# Altium footprint library Wurth_Elektronik_Passive_rev16a.PCBLIB: 810 footprints (part 26 of 51)
Each footprint in its own frame and in the unit in brackets; x right, y up, seen from the top. Pads: shape width x height; smd on the part's side, far side on the other; paste and mask are expansions set on the pad; w line width, h text height; cw(c..) or ccw(c..) is an arc to the next point about the centre after c.
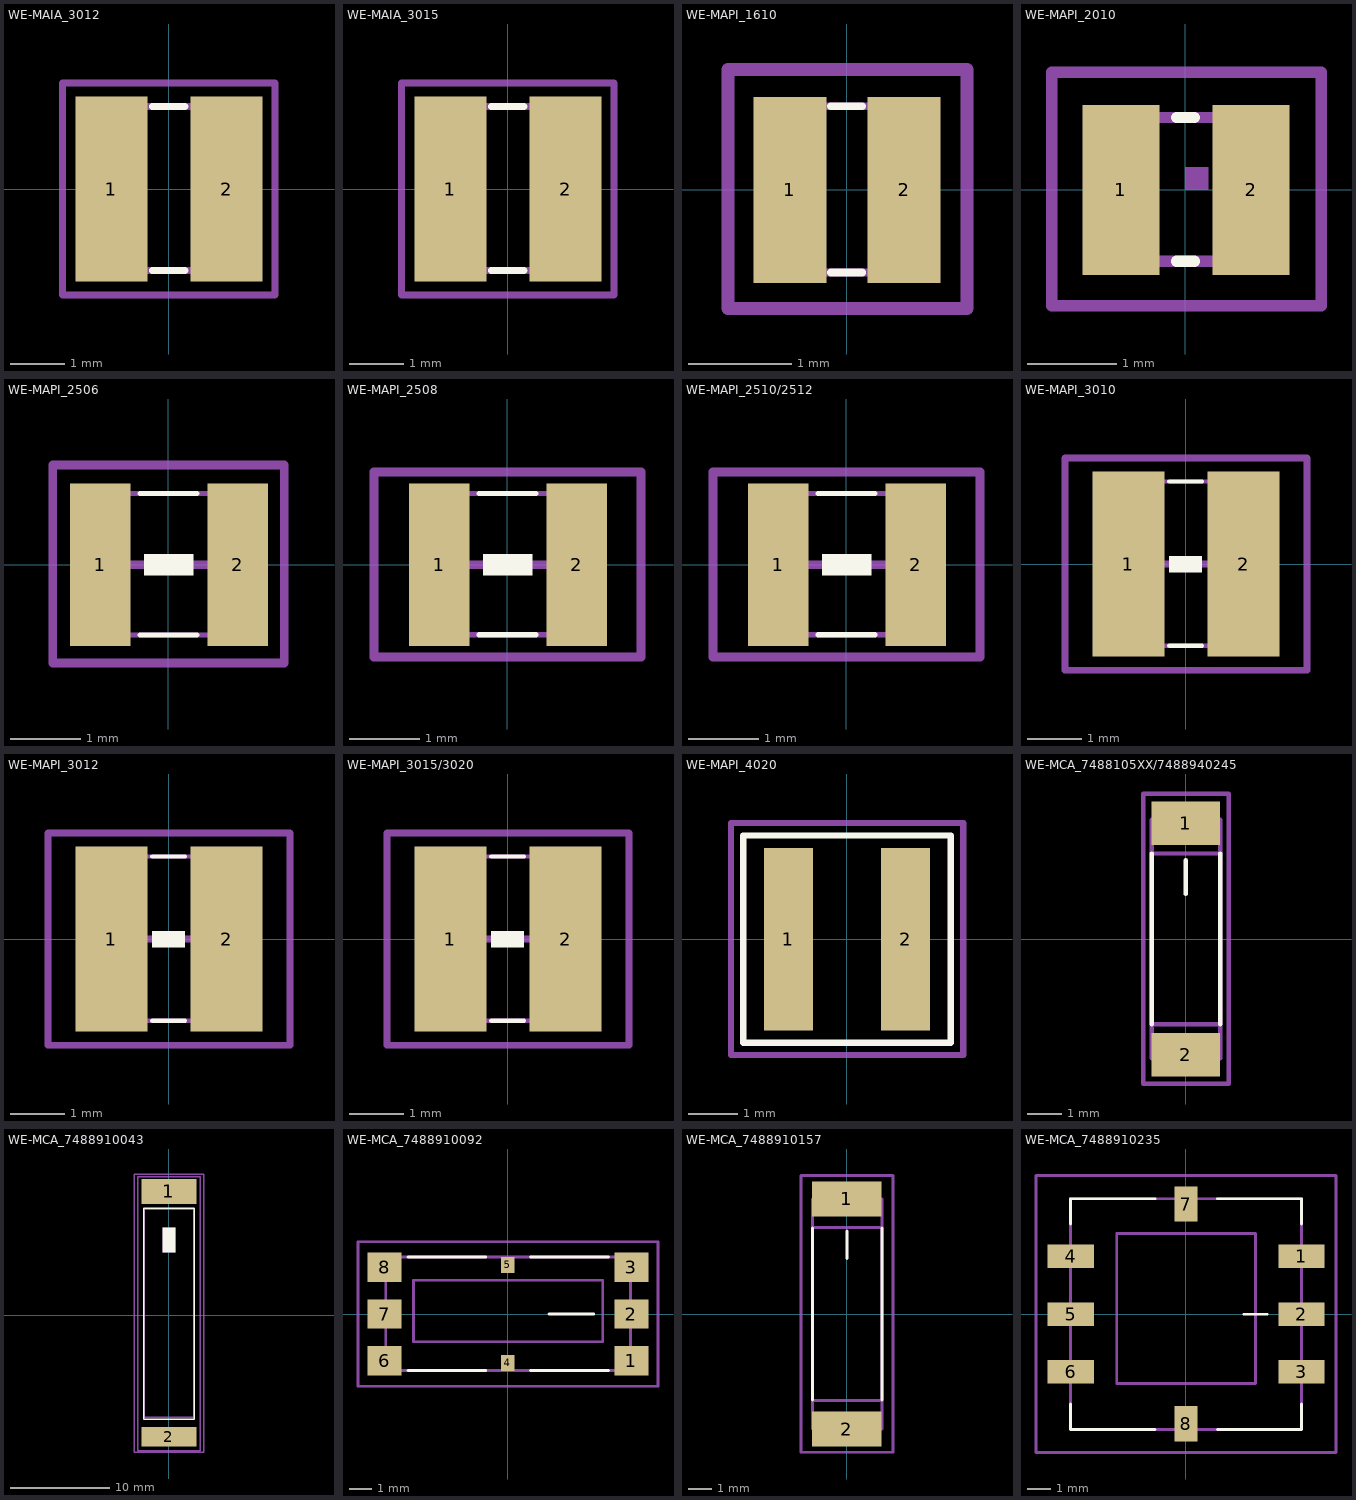
[diagram p25: the footprints below, top view; thin cyan lines are the x and y axes]

## WE-MAIA_3012 [mil]
pads (2):
  rect 52x134 smd: 1(-41.34,0) 2(42,0)
Top Overlay:
  lines w5: -11.81,-59.06 12,-59.06 ; -11.81,60 12,60
Mechanical 2:
  text ">NAME" at -76.77,100 h77.5
Mechanical 4:
  text ">VALUE" at -76.77,-150 h77.5
Mechanical 16:
  lines w5: -11.81,-59.06 -59.06,-59.06 -59.06,60 -11.81,60 ; 12,-59.06 60,-59.06 60,60 12,60
Mechanical 27:
  lines w5: -76.77,-76.77 77,-76.77 77,77 -76.77,77 -76.77,-76.77

## WE-MAIA_3015 [mil]
pads (2):
  rect 52x134 smd: 1(-41.34,0) 2(42,0)
Top Overlay:
  lines w5: -11.81,-59.06 12,-59.06 ; -11.81,60 12,60
Mechanical 2:
  text ">NAME" at -76.77,100 h77.5
Mechanical 4:
  text ">VALUE" at -76.77,-150 h77.5
Mechanical 16:
  lines w5: -11.81,-59.06 -59.06,-59.06 -59.06,60 -11.81,60 ; 12,-59.06 60,-59.06 60,60 12,60
Mechanical 27:
  lines w5: -76.77,-76.77 77,-76.77 77,77 -76.77,77 -76.77,-76.77

## WE-MAPI_1610 [mil]
pads (2):
  rect 28x71 smd: 1(-21.65,0) 2(22,0)
Top Overlay:
  lines w3: -5.91,-31.5 6,-31.5 ; -5.91,32 6,32
Top Solder:
  rectangle: -12.5,-47.24 13,48
Mechanical 2:
  text ">NAME" at -43.75,-75 h37.2
Mechanical 4:
  text ">VALUE" at -43.75,63 h37.2
Mechanical 10:
  lines w5: -45.28,-45.28 46,-45.28 46,46 -45.28,46 -45.28,-45.28
Mechanical 16:
  lines w3: -31.5,-31.5 32,-31.5 32,32 -31.5,32 -31.5,-31.5
Mechanical 27:
  lines w5: -45.28,-45.28 46,-45.28 46,46 -45.28,46 -45.28,-45.28

## WE-MAPI_2010 [mil]
pads (2):
  rect 34x75 smd: 1(-28.54,0) 2(29,0)
Top Overlay:
  lines w5: -3.94,-31.5 4,-31.5 ; -3.94,32 4,32
Mechanical 2:
  text ">Name" at -74.8,75 h77.5
Mechanical 4:
  text ">Value" at -94.49,-118.11 h77.5
Mechanical 10:
  region: 0,0 10,0 10,10 0,10
Mechanical 16:
  lines w5: -39.37,-31.5 40,-31.5 40,32 -39.37,32 -39.37,-31.5
Mechanical 27:
  lines w5: -59.06,-51.18 60,-51.18 60,52 -59.06,52 -59.06,-51.18

## WE-MAPI_2506 [mil]
pads (2):
  rect 34x91 smd: 1(-38.39,0) 2(39,0)
Top Overlay:
  rectangle: -13.78,-5.91 14,6
  lines w3: -15.75,-39.37 16,-39.37 ; -15.75,40 16,40
Top Solder:
  rectangle: -25,-53.15 25,54
Mechanical 2:
  text ">NAME" at -50,-87.5 h37.2
Mechanical 4:
  text ">VALUE" at -50,63 h37.2
Mechanical 10:
  lines w5: -64.96,-55.12 65,-55.12 65,56 -64.96,56 -64.96,-55.12
Mechanical 16:
  lines w3: -49.21,-39.37 50,-39.37 50,40 -49.21,40 -49.21,-39.37
  lines w5: -38.39,0 39,0
Mechanical 27:
  lines w5: -64.96,-55.12 65,-55.12 65,56 -64.96,56 -64.96,-55.12

## WE-MAPI_2508 [mil]
pads (2):
  rect 34x91 smd: 1(-38.39,0) 2(39,0)
Top Overlay:
  rectangle: -13.78,-5.91 14,6
  lines w3: -15.75,-39.37 16,-39.37 ; -15.75,40 16,40
Top Solder:
  rectangle: -25,-53.15 25,54
Mechanical 2:
  text ">NAME" at -50,-87.5 h37.2
Mechanical 4:
  text ">VALUE" at -50,63 h37.2
Mechanical 10:
  lines w5: -74.8,-51.87 75,-51.87 75,52 -74.8,52 -74.8,-51.87
Mechanical 16:
  lines w3: -49.21,-39.37 50,-39.37 50,40 -49.21,40 -49.21,-39.37
  lines w5: -38.39,0 39,0
Mechanical 27:
  lines w5: -74.8,-51.87 75,-51.87 75,52 -74.8,52 -74.8,-51.87

## WE-MAPI_2510/2512 [mil]
pads (2):
  rect 34x91 smd: 1(-38.39,0) 2(39,0)
Top Overlay:
  rectangle: -13.78,-5.91 14,6
  lines w3: -15.75,-39.37 16,-39.37 ; -15.75,40 16,40
Top Solder:
  rectangle: -25,-53.15 25,54
Mechanical 2:
  text ">NAME" at -50,-87.5 h37.2
Mechanical 4:
  text ">VALUE" at -50,63 h37.2
Mechanical 10:
  lines w5: -74.8,-51.87 75,-51.87 75,52 -74.8,52 -74.8,-51.87
Mechanical 16:
  lines w3: -49.21,-39.37 50,-39.37 50,40 -49.21,40 -49.21,-39.37
  lines w5: -38.39,0 39,0
Mechanical 27:
  lines w5: -74.8,-51.87 75,-51.87 75,52 -74.8,52 -74.8,-51.87

## WE-MAPI_3010 [mil]
pads (2):
  rect 52x134 smd: 1(-41.34,0) 2(42,0)
Top Overlay:
  rectangle: -11.81,-5.91 12,6
  lines w3: -11.81,-59.06 12,-59.06 ; -11.81,60 12,60
Top Solder:
  rectangle: -15.75,-78.74 16,79
Mechanical 2:
  text ">NAME" at -62.5,-112.5 h37.2
Mechanical 4:
  text ">VALUE" at -62.5,100 h37.2
Mechanical 10:
  lines w5: -87.3,-76.87 88,-76.87 88,77 -87.3,77 -87.3,-76.87
Mechanical 16:
  lines w3: -59.06,-59.06 60,-59.06 60,60 -59.06,60 -59.06,-59.06
  lines w5: -38.39,0 39,0
Mechanical 27:
  lines w5: -87.3,-76.87 88,-76.87 88,77 -87.3,77 -87.3,-76.87

## WE-MAPI_3012 [mil]
pads (2):
  rect 52x134 smd: 1(-41.34,0) 2(42,0)
Top Overlay:
  rectangle: -11.81,-5.91 12,6
  lines w3: -11.81,-59.06 12,-59.06 ; -11.81,60 12,60
Top Solder:
  rectangle: -15.75,-78.74 16,79
Mechanical 2:
  text ">NAME" at -62.5,-112.5 h37.2
Mechanical 4:
  text ">VALUE" at -62.5,100 h37.2
Mechanical 10:
  lines w5: -87.3,-76.87 88,-76.87 88,77 -87.3,77 -87.3,-76.87
Mechanical 16:
  lines w3: -59.06,-59.06 60,-59.06 60,60 -59.06,60 -59.06,-59.06
  lines w5: -38.39,0 39,0
Mechanical 27:
  lines w5: -87.3,-76.87 88,-76.87 88,77 -87.3,77 -87.3,-76.87

## WE-MAPI_3015/3020 [mil]
pads (2):
  rect 52x134 smd: 1(-41.34,0) 2(42,0)
Top Overlay:
  rectangle: -11.81,-5.91 12,6
  lines w3: -11.81,-59.06 12,-59.06 ; -11.81,60 12,60
Top Solder:
  rectangle: -15.75,-78.74 16,79
Mechanical 2:
  text ">NAME" at -62.5,-112.5 h37.2
Mechanical 4:
  text ">VALUE" at -62.5,100 h37.2
Mechanical 10:
  lines w5: -87.3,-76.87 88,-76.87 88,77 -87.3,77 -87.3,-76.87
Mechanical 16:
  lines w3: -59.06,-59.06 60,-59.06 60,60 -59.06,60 -59.06,-59.06
  lines w5: -38.39,0 39,0
Mechanical 27:
  lines w5: -87.3,-76.87 88,-76.87 88,77 -87.3,77 -87.3,-76.87

## WE-MAPI_4020 [mil]
pads (2):
  rect 39x146 smd: 1(-46.65,0) 2(47,0)
Top Overlay:
  lines w5: -82.68,-82.68 83,-82.68 83,83 -82.68,83 -82.68,-82.68
Mechanical 2:
  text ">NAME" at -78.74,119 h77.5
Mechanical 4:
  text ">VALUE" at -78.74,-157.48 h77.5
Mechanical 27:
  lines w5: -92.52,-92.52 -92.52,93 93,93 93,-92.52 -92.52,-92.52

## WE-MCA_7488105XX/7488940245 [mil]
pads (2):
  rect 79x50 smd: 1(0,134) 2(0,-133.86)
Top Overlay:
  lines w5: -39.37,-98.43 -39.37,99 ; 0,52 0,91 ; 40,-98.43 40,99
Mechanical 2:
  text ">NAME" at -66.93,-157.48 h77.5
Mechanical 4:
  text ">VALUE" at 142,-145.67 h77.5
Mechanical 10:
  lines w5: -39.37,-98.43 -39.37,99 40,99 40,-98.43 -39.37,-98.43
Mechanical 16:
  lines w5: -39.37,-137.8 40,-137.8 40,138 -39.37,138 -39.37,-137.8
Mechanical 27:
  lines w5: -49.21,-167.32 -49.21,168 50,168 50,-167.32 -49.21,-167.32

## WE-MCA_7488910043 [mil]
pads (2):
  rect 217x99 smd: 1(0,493)
  rect 217x79 smd: 2(0,-482.28)
Top Overlay:
  rectangle: -25,250 25,350
  lines w5: -100,-412.5 -100,425 100,425 100,-412.5 -100,-412.5
Mechanical 2:
  text ">NAME" at -170.42,-504.38 h37.2
Mechanical 4:
  text ">VALUE" at 192,-524.07 h37.2
Mechanical 10:
  lines w5: -98.43,-405.51 99,-405.51 99,422 -98.43,422 -98.43,-405.51
Mechanical 16:
  rectangle: -25,250 25,350
  lines w5: -125,-537.5 125,-537.5 125,550 -125,550 -125,-537.5
Mechanical 27:
  lines w5: -137.8,-543.31 138,-543.31 138,560 -137.8,560 -137.8,-543.31

## WE-MCA_7488910092 [mil]
pads (8):
  rect 60x52 smd: 1(219,-82.68) 2(219,0) 3(219,83) 6(-218.5,-82.68) 7(-218.5,0) 8(-218.5,83)
  rect 24x28 smd: 4(0,-86.61) 5(0,87)
Top Overlay:
  lines w5: -177.17,-100.39 -39.37,-100.39 ; -177.17,101 -39.37,101 ; 40,-100.39 178,-100.39 ; 40,101 178,101 ; 73,0 152,0
Mechanical 2:
  text ">NAME" at -157.48,-177.17 h77.5
Mechanical 4:
  text ">VALUE" at -157.48,138 h77.5
Mechanical 10:
  lines w5: -167.32,-49.21 -167.32,60 168,60 168,-49.21 -167.32,-49.21
Mechanical 16:
  lines w5: -216.54,-100.39 -216.54,101 217,101 217,-100.39 -216.54,-100.39
Mechanical 27:
  lines w5: -265.75,-127.95 -265.75,128 266,128 266,-127.95 -265.75,-127.95

## WE-MCA_7488910157 [mil]
pads (2):
  rect 119x60 smd: 1(0,197) 2(0,-196.85)
Top Overlay:
  lines w5: -59.06,-146.85 -59.06,147 ; 0,95 0,142 ; 60,-146.85 60,147
Mechanical 2:
  text ">NAME" at -94.49,-216.54 h77.5
Mechanical 4:
  text ">VALUE" at 158,-244.09 h77.5
Mechanical 10:
  lines w5: -59.06,-147.64 -59.06,148 60,148 60,-147.64 -59.06,-147.64
Mechanical 16:
  lines w5: -59.06,-196.85 60,-196.85 60,197 -59.06,197 -59.06,-196.85
Mechanical 27:
  lines w5: -78.74,-236.22 -78.74,237 79,237 79,-236.22 -78.74,-236.22

## WE-MCA_7488910235 [mil]
pads (8):
  rect 79x40 smd: 1(197,99) 2(197,0) 3(197,-98.43) 4(-196.85,99) 5(-196.85,0) 6(-196.85,-98.43)
  rect 40x60 smd: 7(0,188) 8(0,-187.01)
Top Overlay:
  lines w5: -196.85,-153.15 -196.85,-196.85 -53.15,-196.85 ; -196.85,154 -196.85,197 -53.15,197 ; 54,-196.85 197,-196.85 197,-153.15 ; 54,197 197,197 197,154 ; 99,0 138,0
Mechanical 2:
  text ">NAME" at -236.22,256 h77.5
Mechanical 4:
  text ">VALUE" at -236.22,-314.96 h77.5
Mechanical 10:
  lines w5: -118.11,-118.11 -118.11,138 119,138 119,-118.11 -118.11,-118.11
Mechanical 16:
  lines w5: -196.85,-196.85 197,-196.85 197,197 -196.85,197 -196.85,-196.85
Mechanical 27:
  lines w5: -255.91,-236.22 -255.91,237 256,237 256,-236.22 -255.91,-236.22